# Altium footprint library TP R25.PcbLib: 1 footprints
Each footprint in its own frame and in the unit in brackets; x right, y up, seen from the top. Pads: shape width x height; smd on the part's side, far side on the other; paste and mask are expansions set on the pad; w line width, h text height; cw(c..) or ccw(c..) is an arc to the next point about the centre after c.
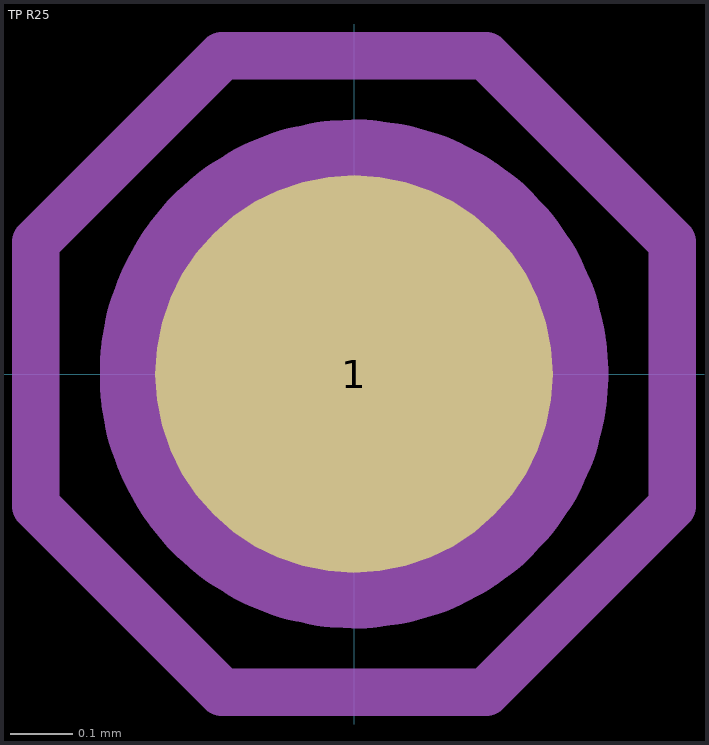
[diagram p0: the footprint, top view; thin cyan lines are the x and y axes]

## TP R25 [mil] "Testpoint, Round, 25 mil Surface Pad"
height 0
pads (1):
  round 25 smd paste-25: 1(0,0)
Mechanical 4:
  circle w16: c0,0 r8
Mechanical 10:
  lines w3: -20,-8.3 -8.3,-20 8.3,-20 20,-8.3 20,8.3 8.3,20 -8.3,20 -20,8.3 -20,-8.3
3D body: height 0, standoff 0, extent -16.5,-16.5 16.5,16.5